# Altium schematic symbol library SRN3015-2R2M.SchLib: 1 symbol
Pins are listed as number, name and electrical type; pins without a type are passive.

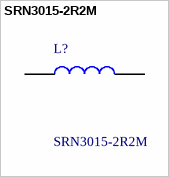
[diagram p0: symbol SRN3015-2R2M]

## SRN3015-2R2M
designator L?
Power Inductor semi-shielded SMD 2.2uH Bourns SRN3015 Series Shielded Wire-wound SMD Inductor with a Ferrite Core, 2.2 uH +/-20% 1.8A Idc; Geometry.Height: 1.5mm; Mouser Part Number: 652-SRN3015-2R2M; Mouser Price/Stock: https://www.mouser.co.uk/ProductDetail/Bourns/SRN3015-2R2M?qs=opBjA1TV9012ipbB8adgog%3D%3D; Manufacturer_Name: Bourns; Manufacturer_Part_Number: SRN3015-2R2M; Datasheet Link: *
footprint INDPM3027X150L
pins: 1, 2